# EAGLE library part FCI_CORTEX_SWD_CONNECTOR (library john_mamish_connector_library)
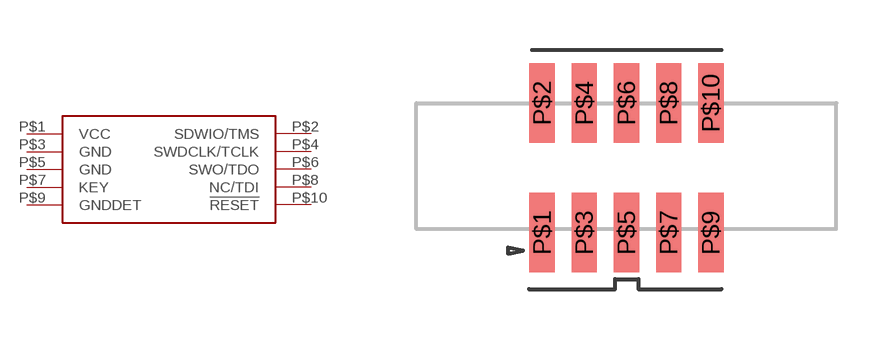
[diagram p1: symbol with the pads of FCI_10_PIN_SMD_0.5; footprint FCI_10_PIN_SMD_0.5]

Designator prefix -

## FCI_CORTEX_SWD_CONNECTOR  [FCI_10_PIN_SMD_0.5]
P$1  VCC
P$2  SDWIO/TMS
P$3  GND
P$4  SWDCLK/TCLK
P$5  GND
P$6  SWO/TDO
P$7  KEY
P$8  NC/TDI
P$9  GNDDET
P$10  !RESET!

## Footprint FCI_10_PIN_SMD_0.5 (pad centres in mm)
smd 0.76 x 2.4: P$1 0,-3.9; P$2 0,0; P$3 1.27,-3.9; P$4 1.27,0; P$5 2.54,-3.9; P$6 2.54,0; P$7 3.81,-3.9; P$8 3.81,0; P$9 5.08,-3.9; P$10 5.08,0